# Altium schematic symbol library Schlib_IDQ.SchLib: 6 symbols
Pins are listed as number, name and electrical type; pins without a type are passive.

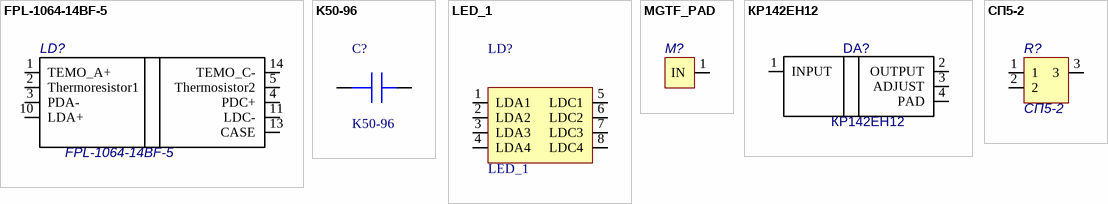
[diagram p0: symbols FPL-1064-14BF-5 to СП5-2]

## FPL-1064-14BF-5
designator LD?
footprint FPL-1064-14BF-5
pins: 1 TEMO_A+, 2 Thermoresistor1, 3 PDA-, 4 PDC+, 5 Thermosistor2, 10 LDA+, 11 LDC-, 13 CASE, 14 TEMO_C-

## K50-96
designator C?
footprint КР50-96
pins: 1, 2

## LED_1
designator LD?
footprint LED_1
pins: 1 LDA1, 2 LDA2, 3 LDA3, 4 LDA4, 5 LDС1, 6 LDC2, 7 LDC3, 8 LDC4

## MGTF_PAD
designator M?  (value not drawn)
footprint MGTF_PAD
pins: 1 IN

## КР142ЕН12
designator DA?
footprint КР142ЕН12
pins: 1 INPUT, 2 OUTPUT, 3 ADJUST, 4 PAD

## СП5-2
designator R?
footprint СП5-2
pins: 1, 2, 3